# EAGLE library part 6-PIN (library WiFlyParts)
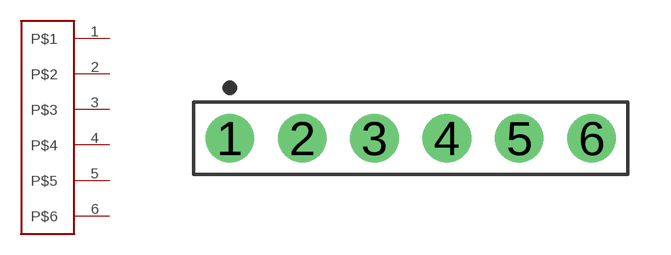
[diagram p2: symbol with the pads of HDRVR6W64P254_1X6_1524X254X762B; footprint HDRVR6W64P254_1X6_1524X254X762B]

Designator prefix -

## 6-PINFEMALE-6-PIN-A  [HDRVR6W64P254_1X6_1524X254X762B]
1  P$1
2  P$2
3  P$3
4  P$4
5  P$5
6  P$6

## Footprint HDRVR6W64P254_1X6_1524X254X762B (pad centres in mm)
Single-row, 6-pin Receptacle Header (Female) Straight, 2.54 mm (0.10 in) col pitch, 7.62 mm insulator length, 15.24 X 2.54 X 7.62 mm body Single-row (1X6), 6-pin Receptacle Header (Female) Straight package with 2.54 mm (0.10 in) col pitch, 0.64 mm lead width, 3.00 mm tail length and 7.62 mm insulator length with overall size 15.24 X 2.54 X 7.62 mm, pin pattern - clockwise from top left
drill 1.105 pad 1.705: 1 0,0; 2 2.54,0; 3 5.08,0; 4 7.62,0; 5 10.16,0; 6 12.7,0